# Altium footprint library PX4FMUv2.4.6.PcbLib: 48 footprints (part 2 of 3)
Each footprint in its own frame and in the unit in brackets; x right, y up, seen from the top. Pads: shape width x height; smd on the part's side, far side on the other; paste and mask are expansions set on the pad; w line width, h text height; cw(c..) or ccw(c..) is an arc to the next point about the centre after c.
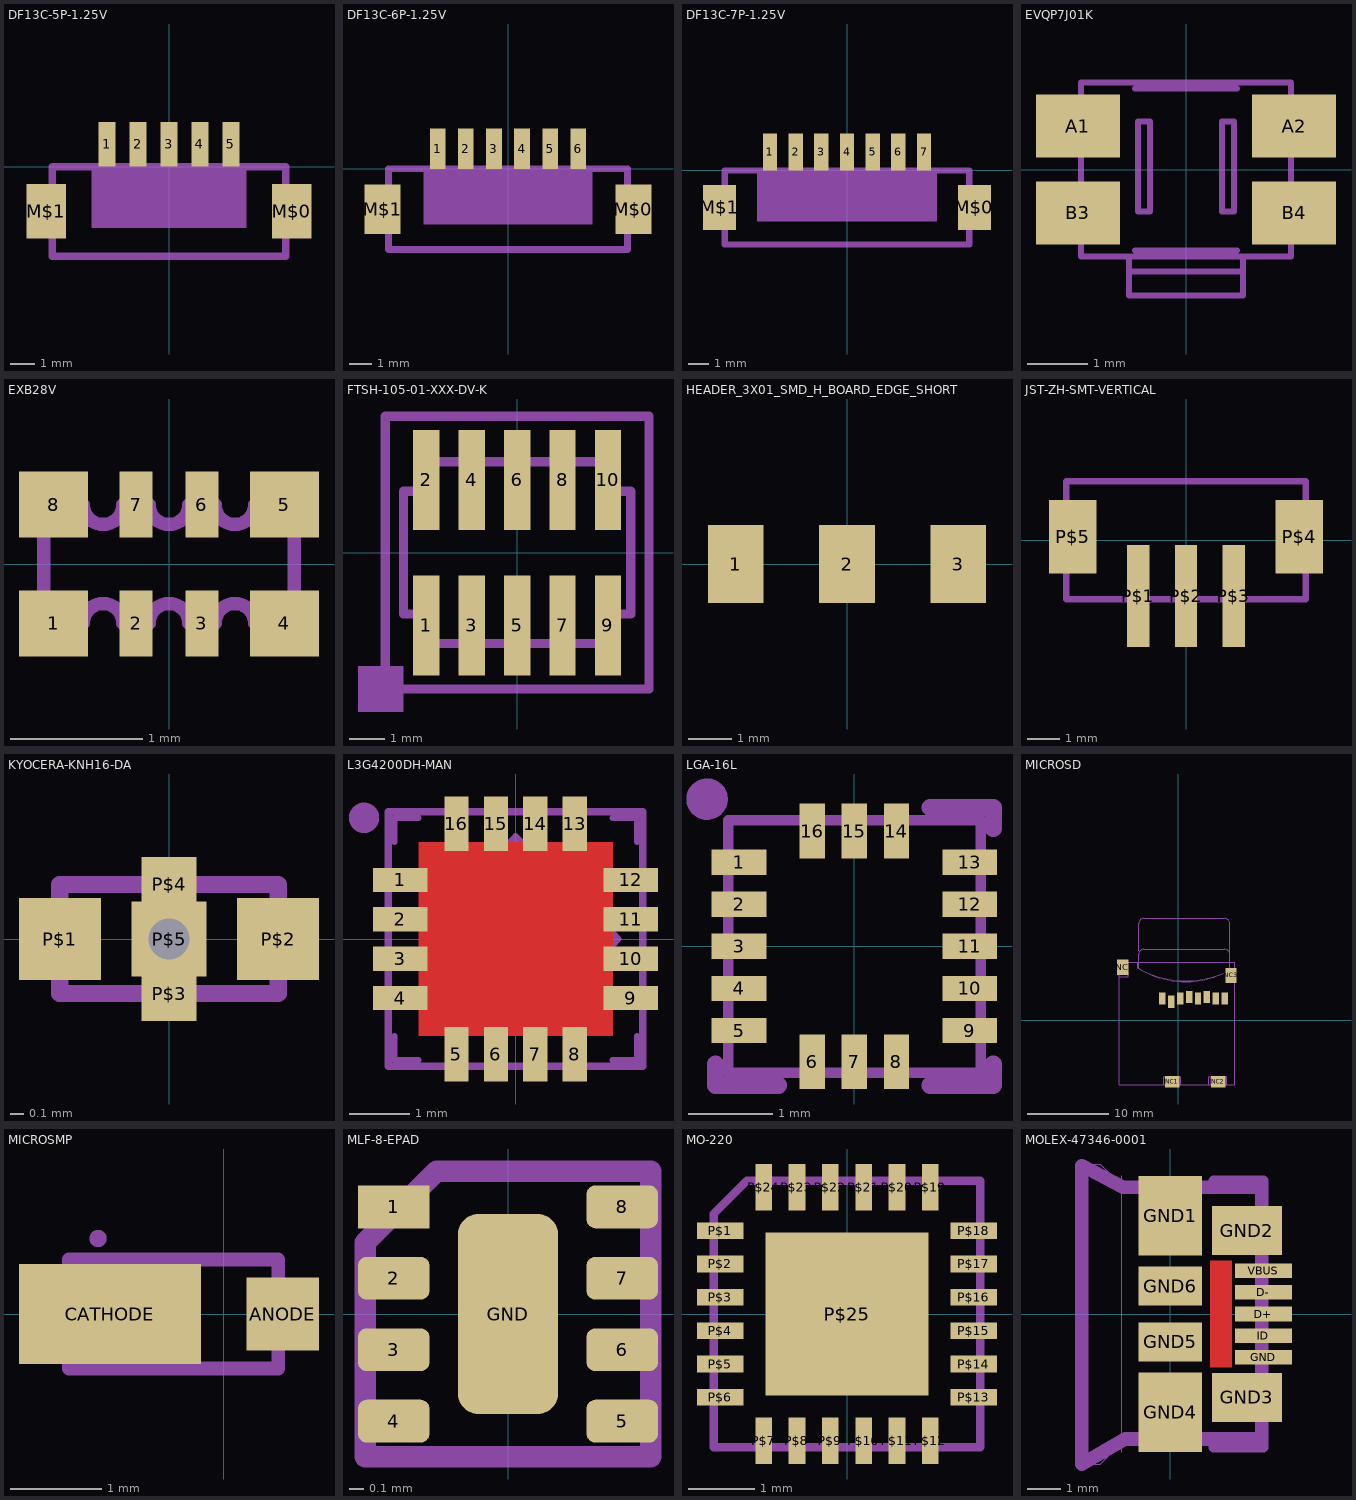
[diagram p1: the footprints below, top view; thin cyan lines are the x and y axes]

## DF13C-5P-1.25V [mm] "DF13C-5P-1.25V"
pads (7):
  rect 0.7x1.8 smd: 1(-2.5,0.9) 2(-1.25,0.9) 3(0,0.9) 4(1.25,0.9) 5(2.5,0.9)
  rect 1.6x2.2 smd: M$0(4.95,-1.8) M$1(-4.95,-1.8)
Mechanical 16:
  region: -3.125,-2.47 -3.125,-0.1 3.125,-0.1 3.125,-2.47
  lines w0.305: -4.7,-3.61 -4.7,-0.01 4.7,-0.01 4.7,-3.61 -4.7,-3.61

## DF13C-6P-1.25V [mm] "DF13C-6P-1.25V"
pads (8):
  rect 0.7x1.8 smd: 1(-3.125,0.9) 2(-1.875,0.9) 3(-0.625,0.9) 4(0.625,0.9) 5(1.875,0.9) 6(3.125,0.9)
  rect 1.6x2.2 smd: M$0(5.575,-1.8) M$1(-5.575,-1.8)
Mechanical 16:
  region: -3.75,-2.475 -3.75,-0.1 3.75,-0.1 3.75,-2.475
  lines w0.305: -5.325,-3.6 5.325,-3.6 5.325,0 -5.325,0 -5.325,-3.6

## DF13C-7P-1.25V [mm] "DF13C-7P-1.25V"
pads (9):
  rect 0.7x1.8 smd: 1(-3.75,0.9) 2(-2.5,0.9) 3(-1.25,0.9) 4(0,0.9) 5(1.25,0.9) 6(2.5,0.9) 7(3.75,0.9)
  rect 1.6x2.2 smd: M$0(6.2,-1.8) M$1(-6.2,-1.8)
Mechanical 16:
  region: -4.375,-2.47 -4.375,-0.1 4.375,-0.1 4.375,-2.47
  lines w0.305: -5.95,-3.61 5.95,-3.61 5.95,-0.01 -5.95,-0.01 -5.95,-3.61

## EVQP7J01K [mm] "EVQP7J01K"
pads (4):
  rect 1.4x1.05 smd: A1(-1.8,0.725) A2(1.8,0.725) B3(-1.8,-0.725) B4(1.8,-0.725)
Mechanical 8:
  lines w0.1: -2.1,0.5 -1.8,0.5 ; -2.1,0.6 -2.3,0.6 -2.3,1 -1.8,1 ; -1.8,-1 -2.3,-1 -2.3,-0.6 -2.1,-0.6 -2.1,-0.5 -1.8,-0.5 ; 0.95,-1.7 -0.95,-1.7 ; 1.8,-1 2.3,-1 2.3,-0.6 2.1,-0.6 2.1,-0.5 1.8,-0.5 ; 1.8,0.5 2.1,0.5 2.1,0.6 2.3,0.6 2.3,1 1.8,1 ; -0.95,-1.7 -0.95,-2.1 0.95,-2.1 0.95,-1.45 ; -0.95,-1.7 -0.95,-1.45 ; -0.95,-1.45 -1.75,-1.45 -1.75,1.45 1.75,1.45 1.75,-1.45 0.95,-1.45 ; -0.95,-1.45 0.95,-1.45 ; -0.8,-0.7 -0.8,0.8 -0.6,0.8 -0.6,-0.7 -0.8,-0.7 ; 0.6,-0.7 0.6,0.8 0.8,0.8 0.8,-0.7 0.6,-0.7
Mechanical 16:
  lines w0.1: -2.1,0.5 -2.1,0.6 ; -0.85,-1.35 0.85,-1.35 ; -0.85,1.35 0.85,1.35

## EXB28V [mm] "EXB28V"
pads (8):
  rect 0.525x0.5 smd: 1(-0.875,-0.45) 4(0.875,-0.45) 5(0.875,0.45) 8(-0.875,0.45)
  rect 0.25x0.5 smd: 2(-0.25,-0.45) 3(0.25,-0.45) 6(0.25,0.45) 7(-0.25,0.45)
Mechanical 8:
  lines w0.102: -0.95,-0.45 -0.65,-0.45 cw(c-0.5,-0.45) -0.5,-0.3 cw(c-0.5,-0.45) -0.35,-0.45 -0.15,-0.45 cw(c0,-0.45) 0,-0.3 cw(c0,-0.45) 0.15,-0.45 0.35,-0.45 cw(c0.5,-0.45) 0.5,-0.3 cw(c0.5,-0.45) 0.65,-0.45 0.95,-0.45 0.95,0.45 0.65,0.45 cw(c0.5,0.45) 0.5,0.3 cw(c0.5,0.45) 0.35,0.45 0.15,0.45 cw(c0,0.45) 0,0.3 cw(c0,0.45) -0.15,0.45 -0.35,0.45 cw(c-0.5,0.45) -0.5,0.3 cw(c-0.5,0.45) -0.65,0.45 -0.95,0.45 -0.95,-0.45
Mechanical 16:
  lines w0.102: -0.95,-0.1 -0.95,0.1 ; 0.95,-0.1 0.95,0.1

## FTSH-105-01-XXX-DV-K [mil] "FTSH-105-01-XXX-DV-K"
pads (10):
  rect 29x110 smd: 1(-100,-80) 2(-100,80) 3(-50,-80) 4(-50,80) 5(0,-80) 6(0,80) 7(50,-80) 8(50,80) 9(100,-80) 10(100,80)
Mechanical 9:
  lines w10: -125,-67.48 -100,-67.48 -100,-100 100,-100 100,-67.48 125,-67.48 125,67.52 100,67.52 100,100 -100,100 -100,67.48 -125,67.48 -125,-67.48
Mechanical 16:
  region: -175,-175 -175,-125 -125,-125 -125,-175
  lines w10: -145,-150 -145,150 145,150 145,-150 -145,-150

## HEADER_3X01_SMD_H_BOARD_EDGE_SHORT [mil] "HEADER_3X01_SMD_H_BOARD_EDGE_SHORT"
pads (3):
  rect 50x70 smd: 1(-100,0) 2(0,0) 3(100,0)

## JST-ZH-SMT-VERTICAL [mm] "JST-ZH-SMT-VERTICAL"
pads (5):
  rect 0.7x3.2 smd: P$1(-1.5,-1.75) P$2(0,-1.75) P$3(1.5,-1.75)
  rect 1.5x2.3 smd: P$4(3.55,0.1) P$5(-3.55,0.1)
Mechanical 9:
  lines w0.203: -3.75,-1.85 3.75,-1.85 3.75,1.85 -3.75,1.85 -3.75,-1.85

## KYOCERA-KNH16-DA [mil] "KYOCERA-KNH16-DA"
pads (5):
  rect 23.62x23.62 smd: P$1(-31.5,0) P$2(31.5,0)
  rect 15.75x15.75 smd: P$3(0,-15.75) P$4(0,15.75)
  rect 21.65x21.65 / inner rect 60x60 / far side rect 21.65x21.65 hole 11.81: P$5(0,0)
Mechanical 16:
  lines w5: -31.5,-15.75 -31.5,15.75 31.5,15.75 31.5,-15.75 -31.5,-15.75

## L3G4200DH-MAN [mm] "L3G4200DH-MAN"
pads (16):
  rect 0.9x0.4 smd: 1(-1.9,0.975) 2(-1.9,0.325) 3(-1.9,-0.325) 4(-1.9,-0.975) 9(1.9,-0.975) 10(1.9,-0.325) 11(1.9,0.325) 12(1.9,0.975)
  rect 0.4x0.9 smd: 5(-0.975,-1.9) 6(-0.325,-1.9) 7(0.325,-1.9) 8(0.975,-1.9) 13(0.975,1.9) 14(0.325,1.9) 15(-0.325,1.9) 16(-0.975,1.9)
Top Layer:
  region: -1.6,-1.6 -1.6,1.6 1.6,1.6 1.6,-1.6
Mechanical 8:
  circle w0.1: c0,0 r0.2
  lines w0.1: -0.4,0.8 cw(c0,0.8) 0.4,0.8 ; 0.2,-0.3 ccw(c-0.025,0) -0.4,0 ; 0.7,0.3 cw(c0.8,0) 0.7,-0.3 ; -0.4,0 -0.5,0.1 -0.3,0.1 -0.4,0 ; 0,1.7 0,0 1.7,0 ; 0,1.7 0.1,1.6 -0.1,1.6 0,1.7 ; 0.4,0.8 0.3,0.9 0.5,0.9 0.4,0.8 ; 0.7,-0.3 0.8,-0.2 0.8,-0.4 0.7,-0.3 ; 1.7,0 1.6,0.1 1.6,-0.1 1.7,0
  lines w0.127: -2.1,-2.1 2.1,-2.1 2.1,2.1 -2.1,2.1 -2.1,-2.1
Mechanical 16:
  circle w0.3: c-2.5,2 r0.1
  lines w0.001: -2.1,-2.1 2.1,-2.1 2.1,2.1 -2.1,2.1 -2.1,-2.1
  lines w0.1: -2,-1.6 -2,-2 ; -2,1.6 -2,2 -1.6,2 ; 1.6,-2 2,-2 2,-1.6 ; 1.6,2 2,2 2,1.6 ; -2,-2 -1.6,-2 -2,-2
  lines w0.127: -2.1,-2.1 2.1,-2.1 2.1,2.1 -2.1,2.1 -2.1,-2.1

## LGA-16L [mm] "LGA-16L"
pads (16):
  rect 0.65x0.3 smd: 1(-1.37,1) 2(-1.37,0.5) 3(-1.37,0) 4(-1.37,-0.5) 5(-1.37,-1) 9(1.37,-1) 10(1.37,-0.5) 11(1.37,0) 12(1.37,0.5) 13(1.37,1)
  rect 0.3x0.65 smd: 6(-0.5,-1.37) 7(0,-1.37) 8(0.5,-1.37) 14(0.5,1.37) 15(0,1.37) 16(-0.5,1.37)
Mechanical 8:
  lines w0.127: -1.5,-1.5 1.5,-1.5 1.5,1.5 -1.5,1.5 -1.5,-1.5
Mechanical 16:
  circle w0.254: c-1.75,1.75 r0.12
  lines w0.203: -1.65,-1.4 -1.65,-1.65 -0.9,-1.65 ; 0.9,-1.65 1.65,-1.65 1.65,-1.4 ; 0.9,1.65 1.65,1.65 1.65,1.4

## MICROSD [mil] "MICROSD"
pads (12):
  rect 31.5x59.06 smd: 1(-76.38,106.3) 2(-33.07,90.55) 3(10.24,106.3) 4(53.54,114.17) 5(96.85,106.3) 6(140.16,114.17) 7(183.46,106.3) 8(226.77,106.3)
  rect 55.12x74.8 smd: NC(-269.69,257.87) NC3(257.87,218.5)
  rect 70.87x55.12 smd: NC1(-29.53,-299.21) NC2(194.88,-299.21)
Mechanical 9:
  lines w0: -192.91,251.97 -192.91,321.25 cw(c-167.7,321.25) -167.7,346.46 224.13,346.46 cw(c224.13,318.62) 251.97,318.62 251.97,248.03 ; -192.91,338.58 -192.91,470.85 cw(c-167.7,470.85) -167.7,496.06 224.13,496.06 cw(c224.13,468.22) 251.97,468.22 251.97,330.71
  lines w5: -287.4,-314.96 -287.4,212.6 -244.09,212.6 -244.09,232.28 -287.4,232.28 -287.4,283.46 -196.85,283.46 -196.85,255.91 ccw(c38.34,659.47) 251.97,244.09 255.91,248.03 275.59,248.03 275.59,-314.96 236.22,-314.96 236.22,-275.59 220.47,-275.59 220.47,-314.96 161.42,-314.96 161.42,-275.59 149.61,-275.59 149.61,-314.96 11.81,-314.96 11.81,-275.59 -3.94,-275.59 -3.94,-314.96 -59.06,-314.96 -59.06,-275.59 -70.87,-275.59 -70.87,-314.96 -287.4,-314.96
Mechanical 16:
  lines w3.94: -287.4,-314.96 275.59,-314.96 275.59,283.46 -287.4,283.46 -287.4,-314.96
  lines w5: -287.4,192.91 -287.4,-314.96 -80.71,-314.96 ; -196.85,255.91 ccw(c35.2,617.33) 215.02,227.28 ; 16.73,-314.96 144.69,-314.96 ; 241.14,-314.96 275.59,-314.96 275.59,149.61

## MICROSMP [mm] "MICROSMP"
pads (2):
  rect 0.8x0.8 smd: ANODE(0.65,0)
  rect 2x1.1 smd: CATHODE(-1.25,0)
Mechanical 8:
  region: -1.9,-0.45 -1.9,0.45 -1.75,0.45 -1.75,-0.45
  region: 0.65,-0.3 0.65,0.3 0.75,0.3 0.75,-0.3
  region: -1.5,-0.55 -1.5,0.55 -1.25,0.55 -1.25,-0.55
  lines w0.15: -1.7,-0.6 0.6,-0.6 0.6,0.6 -1.7,0.6 -1.7,-0.6
Mechanical 16:
  circle w0.1: c-1.38,0.83 r0.045
  lines w0.001: -1.7,-0.6 0.6,-0.6 0.6,0.6 -1.7,0.6 -1.7,-0.6
  lines w0.15: -1.7,-0.6 0.6,-0.6 0.6,-0.5 ; -1.7,0.6 0.6,0.6 0.6,0.5

## MLF-8-EPAD [mil] "MLF-8-EPAD"
pads (9):
  rect 19.69x11.81 smd: 1(-31.5,29.53)
  rrect40% 19.69x11.81 smd: 2(-31.5,9.84) 3(-31.5,-9.84) 4(-31.5,-29.53) 5(31.5,-29.53) 6(31.5,-9.84) 7(31.5,9.84) 8(31.5,29.53)
  rrect40% 27.56x55.12 smd: GND(0,0)
Mechanical 8:
  lines w5.91: -39.37,-39.37 -39.37,19.69 -19.69,39.37 ; 39.37,-39.37 39.37,39.37
Mechanical 16:
  lines w5.91: -39.37,-39.37 39.37,-39.37 ; -19.69,39.37 39.37,39.37

## MO-220 [mm] "MO-220"
pads (25):
  rect 0.7x0.25 smd: P$1(-1.9,1.25) P$2(-1.9,0.75) P$3(-1.9,0.25) P$4(-1.9,-0.25) P$5(-1.9,-0.75) P$6(-1.9,-1.25) P$13(1.9,-1.25) P$14(1.9,-0.75) P$15(1.9,-0.25) P$16(1.9,0.25) P$17(1.9,0.75) P$18(1.9,1.25)
  rect 0.25x0.7 smd: P$7(-1.25,-1.9) P$8(-0.75,-1.9) P$9(-0.25,-1.9) P$10(0.25,-1.9) P$11(0.75,-1.9) P$12(1.25,-1.9) P$19(1.25,1.9) P$20(0.75,1.9) P$21(0.25,1.9) P$22(-0.25,1.9) P$23(-0.75,1.9) P$24(-1.25,1.9)
  rect 2.45x2.45 smd paste+0: P$25(0,0)
Top Paste:
  region: -0.5,-0.5 -0.5,0.5 0.5,0.5 0.5,-0.5
Mechanical 16:
  lines w0.127: -2,-2 -2,1.5 -1.5,2 2,2 2,-2 -2,-2

## MOLEX-47346-0001 [mm] "MOLEX-47346-0001"
pads (11):
  rect 1.7x0.44 smd: D+(2.8,0) D-(2.8,0.65) GND(2.8,-1.3) ID(2.8,-0.65) VBUS(2.8,1.3)
  rect 1.9x2.375 smd: GND1(0,2.95) GND4(0,-2.95)
  rect 2.1x1.475 smd: GND2(2.3,2.5) GND3(2.3,-2.5)
  rect 1.9x1.175 smd: GND5(0,-0.837) GND6(0,0.837)
Top Layer:
  region: 1.2,-1.6 1.2,1.6 1.85,1.6 1.85,-1.6
Mechanical 8:
  lines w0: -1.45,-4.15 -1.45,4.15
  lines w0.406: -2.65,-4.5 -1.35,-3.75 2.75,-3.75 2.75,3.8 -1.4,3.8 -2.65,4.45 -2.65,-4.5
Mechanical 16:
  lines w0.002: -2.7,-4.5 -2.1,-4.5 -1.4,-3.8 2.7,-3.8 2.8,-3.7 2.8,3.7 2.7,3.8 -1.4,3.8 -2.1,4.5 -2.7,4.5 -2.7,-4.5
  lines w0.305: 1.3,-4 2.8,-4 2.8,-3.5 ; 1.3,4 2.8,4 2.8,3.5